# Altium footprint library 2020-04-08_20-52-36.PcbLib: 3 footprints
Each footprint in its own frame and in the unit in brackets; x right, y up, seen from the top. Pads: shape width x height; smd on the part's side, far side on the other; paste and mask are expansions set on the pad; w line width, h text height; cw(c..) or ccw(c..) is an arc to the next point about the centre after c.
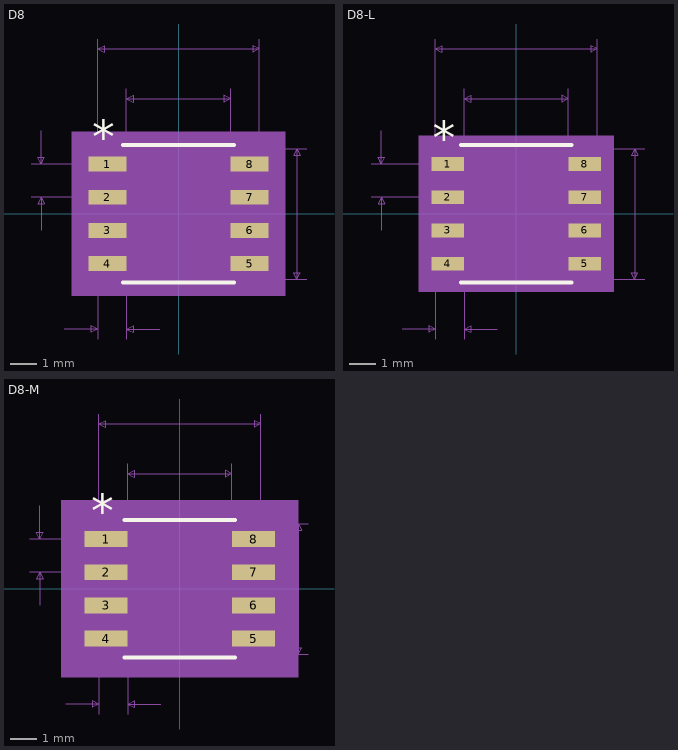
[diagram p0: the footprints below, top view; thin cyan lines are the x and y axes]

## D8 [mil]
pads (8):
  rect 57.28x22.36 smd paste+0 mask+0: 1(-107.14,75) 2(-107.14,25) 3(-107.14,-25) 4(-107.14,-75) 5(107.14,-75) 6(107.14,-25) 7(107.14,25) 8(107.14,75)
Top Overlay:
  lines w6: -83.5,-103.5 83.5,-103.5 ; -83.5,103.5 83.5,103.5
  text "*" at -129.64,92.36 h50
Mechanical 5:
  region: 160.78,-123.5 -160.78,-123.5 -160.78,123.5 160.78,123.5
Mechanical 7:
  lines w1: -222.14,25 -107.14,25 ; -222.14,75 -107.14,75 ; -207.14,-25 -207.14,25 ; -207.14,125 -207.14,75 ; -172,-173.5 -122,-173.5 ; -122,-188.5 -122,0 -122,263.5 ; -78.5,-188.5 -78.5,0 -78.5,188.5 ; -28.5,-173.5 -78.5,-173.5 ; 0,-98.5 193.5,-98.5 ; 0,98.5 193.5,98.5 ; 78.5,0 78.5,188.5 ; 122,0 122,263.5 ; -207.14,25 -212.14,15 -202.14,15 -207.14,25 ; -207.14,75 -212.14,85 -202.14,85 -207.14,75 ; -122,-173.5 -132,-168.5 -132,-178.5 -122,-173.5 ; -122,248.5 122,248.5 ; -122,248.5 -112,253.5 -112,243.5 -122,248.5 ; -78.5,-173.5 -68.5,-168.5 -68.5,-178.5 -78.5,-173.5 ; -78.5,173.5 78.5,173.5 ; -78.5,173.5 -68.5,178.5 -68.5,168.5 -78.5,173.5 ; 78.5,173.5 68.5,178.5 68.5,168.5 78.5,173.5 ; 122,248.5 112,253.5 112,243.5 122,248.5 ; 178.5,-98.5 178.5,98.5 ; 178.5,-98.5 173.5,-88.5 183.5,-88.5 178.5,-98.5 ; 178.5,98.5 173.5,88.5 183.5,88.5 178.5,98.5
  text "Default Padstyle: r145_57" at -312.5,-298.5 h50
  text "Pin One Padstyle: r145_57" at -312.5,-358.5 h50
  text "Alt 1 Padstyle: b152_229h76" at -337.5,-538.5 h50
  text "Alt 2 Padstyle: b229_152h76" at -337.5,-598.5 h50
  text "0.157in/3.988mm" at -93.75,193.5 h25
  text "0.244in/6.198mm" at -93.75,268.5 h25
  text "0.197in/5.004mm" at 198.5,-12.5 h25
  text "0.05in/1.27mm" at -389.64,37.5 h25
  text "0.05in/1.27mm" at -181.5,-218.5 h25
Mechanical 13:
  lines w0: -12,98.5 ccw(c0,98.5) 12,98.5
  lines w1: -122,-85 -122,-65 -78.5,-65 -78.5,-85 -122,-85 ; -122,-35 -122,-15 -78.5,-15 -78.5,-35 -122,-35 ; -122,15 -122,35 -78.5,35 -78.5,15 -122,15 ; -122,65 -122,85 -78.5,85 -78.5,65 -122,65 ; -78.5,-98.5 78.5,-98.5 78.5,98.5 -78.5,98.5 -78.5,-98.5 ; 78.5,-85 78.5,-65 122,-65 122,-85 78.5,-85 ; 78.5,-35 78.5,-15 122,-15 122,-35 78.5,-35 ; 78.5,15 78.5,35 122,35 122,15 78.5,15 ; 78.5,65 78.5,85 122,85 122,65 78.5,65
  text "*" at -76,45.5 h50
Mechanical 15:
  region: -88.5,-96.18 -145.78,-96.18 -145.78,96.18 -88.5,96.18 -88.5,108.5 88.5,108.5 88.5,96.18 145.78,96.18 145.78,-96.18 88.5,-96.18 88.5,-108.5 -88.5,-108.5
  lines w6: -145.78,-96.18 -145.78,96.18 -88.5,96.18 -88.5,108.5 88.5,108.5 88.5,96.18 145.78,96.18 145.78,-96.18 88.5,-96.18 88.5,-108.5 -88.5,-108.5 -88.5,-96.18 -145.78,-96.18
3D body: height 10, standoff 0, extent 0,0 10,10

## D8-L [mil]
pads (8):
  rect 49.41x20.79 smd paste+0 mask+0: 1(-103.2,75) 2(-103.2,25) 3(-103.2,-25) 4(-103.2,-75) 5(103.2,-75) 6(103.2,-25) 7(103.2,25) 8(103.2,75)
Top Overlay:
  lines w6: -83.5,-103.5 83.5,-103.5 ; -83.5,103.5 83.5,103.5
  text "*" at -125.7,90.79 h50
Mechanical 5:
  region: 146.91,-117.5 -146.91,-117.5 -146.91,117.5 146.91,117.5
Mechanical 7:
  lines w1: -218.2,25 -103.2,25 ; -218.2,75 -103.2,75 ; -203.2,-25 -203.2,25 ; -203.2,125 -203.2,75 ; -172,-173.5 -122,-173.5 ; -122,-188.5 -122,0 -122,263.5 ; -78.5,-188.5 -78.5,0 -78.5,188.5 ; -28.5,-173.5 -78.5,-173.5 ; 0,-98.5 193.5,-98.5 ; 0,98.5 193.5,98.5 ; 78.5,0 78.5,188.5 ; 122,0 122,263.5 ; -203.2,25 -208.2,15 -198.2,15 -203.2,25 ; -203.2,75 -208.2,85 -198.2,85 -203.2,75 ; -122,-173.5 -132,-168.5 -132,-178.5 -122,-173.5 ; -122,248.5 122,248.5 ; -122,248.5 -112,253.5 -112,243.5 -122,248.5 ; -78.5,-173.5 -68.5,-168.5 -68.5,-178.5 -78.5,-173.5 ; -78.5,173.5 78.5,173.5 ; -78.5,173.5 -68.5,178.5 -68.5,168.5 -78.5,173.5 ; 78.5,173.5 68.5,178.5 68.5,168.5 78.5,173.5 ; 122,248.5 112,253.5 112,243.5 122,248.5 ; 178.5,-98.5 178.5,98.5 ; 178.5,-98.5 173.5,-88.5 183.5,-88.5 178.5,-98.5 ; 178.5,98.5 173.5,88.5 183.5,88.5 178.5,98.5
  text "Default Padstyle: r125_53" at -312.5,-298.5 h50
  text "Pin One Padstyle: r125_53" at -312.5,-358.5 h50
  text "Alt 1 Padstyle: b152_229h76" at -337.5,-538.5 h50
  text "Alt 2 Padstyle: b229_152h76" at -337.5,-598.5 h50
  text "0.157in/3.988mm" at -93.75,193.5 h25
  text "0.244in/6.198mm" at -93.75,268.5 h25
  text "0.197in/5.004mm" at 198.5,-12.5 h25
  text "0.05in/1.27mm" at -385.7,37.5 h25
  text "0.05in/1.27mm" at -181.5,-218.5 h25
Mechanical 13:
  lines w0: -12,98.5 ccw(c0,98.5) 12,98.5
  lines w1: -122,-85 -122,-65 -78.5,-65 -78.5,-85 -122,-85 ; -122,-35 -122,-15 -78.5,-15 -78.5,-35 -122,-35 ; -122,15 -122,35 -78.5,35 -78.5,15 -122,15 ; -122,65 -122,85 -78.5,85 -78.5,65 -122,65 ; -78.5,-98.5 78.5,-98.5 78.5,98.5 -78.5,98.5 -78.5,-98.5 ; 78.5,-85 78.5,-65 122,-65 122,-85 78.5,-85 ; 78.5,-35 78.5,-15 122,-15 122,-35 78.5,-35 ; 78.5,15 78.5,35 122,35 122,15 78.5,15 ; 78.5,65 78.5,85 122,85 122,65 78.5,65
  text "*" at -76,45.5 h50
Mechanical 15:
  region: -82.5,-89.39 -131.91,-89.39 -131.91,89.39 -82.5,89.39 -82.5,102.5 82.5,102.5 82.5,89.39 131.91,89.39 131.91,-89.39 82.5,-89.39 82.5,-102.5 -82.5,-102.5
  lines w6: -131.91,-89.39 -131.91,89.39 -82.5,89.39 -82.5,102.5 82.5,102.5 82.5,89.39 131.91,89.39 131.91,-89.39 82.5,-89.39 82.5,-102.5 -82.5,-102.5 -82.5,-89.39 -131.91,-89.39
3D body: height 10, standoff 0, extent 0,0 10,10

## D8-M [mil]
pads (8):
  rect 65.15x23.94 smd paste+0 mask+0: 1(-111.08,75) 2(-111.08,25) 3(-111.08,-25) 4(-111.08,-75) 5(111.08,-75) 6(111.08,-25) 7(111.08,25) 8(111.08,75)
Top Overlay:
  lines w6: -83.5,-103.5 83.5,-103.5 ; -83.5,103.5 83.5,103.5
  text "*" at -133.58,93.94 h50
Mechanical 5:
  region: 178.65,-133.5 -178.65,-133.5 -178.65,133.5 178.65,133.5
Mechanical 7:
  lines w1: -226.08,25 -111.08,25 ; -226.08,75 -111.08,75 ; -211.08,-25 -211.08,25 ; -211.08,125 -211.08,75 ; -172,-173.5 -122,-173.5 ; -122,-188.5 -122,0 -122,263.5 ; -78.5,-188.5 -78.5,0 -78.5,188.5 ; -28.5,-173.5 -78.5,-173.5 ; 0,-98.5 193.5,-98.5 ; 0,98.5 193.5,98.5 ; 78.5,0 78.5,188.5 ; 122,0 122,263.5 ; -211.08,25 -216.08,15 -206.08,15 -211.08,25 ; -211.08,75 -216.08,85 -206.08,85 -211.08,75 ; -122,-173.5 -132,-168.5 -132,-178.5 -122,-173.5 ; -122,248.5 122,248.5 ; -122,248.5 -112,253.5 -112,243.5 -122,248.5 ; -78.5,-173.5 -68.5,-168.5 -68.5,-178.5 -78.5,-173.5 ; -78.5,173.5 78.5,173.5 ; -78.5,173.5 -68.5,178.5 -68.5,168.5 -78.5,173.5 ; 78.5,173.5 68.5,178.5 68.5,168.5 78.5,173.5 ; 122,248.5 112,253.5 112,243.5 122,248.5 ; 178.5,-98.5 178.5,98.5 ; 178.5,-98.5 173.5,-88.5 183.5,-88.5 178.5,-98.5 ; 178.5,98.5 173.5,88.5 183.5,88.5 178.5,98.5
  text "Default Padstyle: r165_61" at -312.5,-298.5 h50
  text "Pin One Padstyle: r165_61" at -312.5,-358.5 h50
  text "Alt 1 Padstyle: b152_229h76" at -337.5,-538.5 h50
  text "Alt 2 Padstyle: b229_152h76" at -337.5,-598.5 h50
  text "0.157in/3.988mm" at -93.75,193.5 h25
  text "0.244in/6.198mm" at -93.75,268.5 h25
  text "0.197in/5.004mm" at 198.5,-12.5 h25
  text "0.05in/1.27mm" at -393.58,37.5 h25
  text "0.05in/1.27mm" at -181.5,-218.5 h25
Mechanical 13:
  lines w0: -12,98.5 ccw(c0,98.5) 12,98.5
  lines w1: -122,-85 -122,-65 -78.5,-65 -78.5,-85 -122,-85 ; -122,-35 -122,-15 -78.5,-15 -78.5,-35 -122,-35 ; -122,15 -122,35 -78.5,35 -78.5,15 -122,15 ; -122,65 -122,85 -78.5,85 -78.5,65 -122,65 ; -78.5,-98.5 78.5,-98.5 78.5,98.5 -78.5,98.5 -78.5,-98.5 ; 78.5,-85 78.5,-65 122,-65 122,-85 78.5,-85 ; 78.5,-35 78.5,-15 122,-15 122,-35 78.5,-35 ; 78.5,15 78.5,35 122,35 122,15 78.5,15 ; 78.5,65 78.5,85 122,85 122,65 78.5,65
  text "*" at -76,45.5 h50
Mechanical 15:
  region: -98.5,-106.97 -163.65,-106.97 -163.65,106.97 -98.5,106.97 -98.5,118.5 98.5,118.5 98.5,106.97 163.65,106.97 163.65,-106.97 98.5,-106.97 98.5,-118.5 -98.5,-118.5
  lines w6: -163.65,-106.97 -163.65,106.97 -98.5,106.97 -98.5,118.5 98.5,118.5 98.5,106.97 163.65,106.97 163.65,-106.97 98.5,-106.97 98.5,-118.5 -98.5,-118.5 -98.5,-106.97 -163.65,-106.97
3D body: height 10, standoff 0, extent 0,0 10,10